# EAGLE library part MX1508 (library MX)
MX1508 Dual H-bridge motor driver
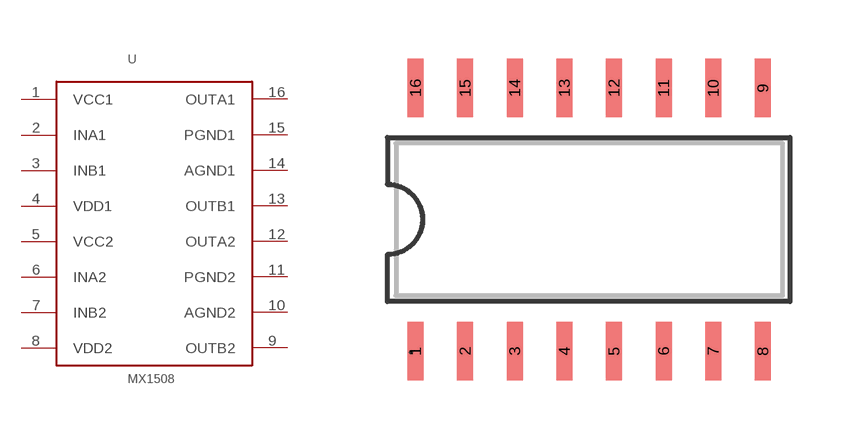
[diagram p0: symbol with the pads of MX1508; footprint MX1508]

Designator prefix U

## MX1508  [MX1508]
1  VCC1  pwr
2  INA1
3  INB1
4  VDD1  pwr
5  VCC2  pwr
6  INA2
7  INB2
8  VDD2  pwr
9  OUTB2
10  AGND2
11  PGND2
12  OUTA2
13  OUTB1
14  AGND1
15  PGND1
16  OUTA1

## Footprint MX1508 (pad centres in mm)
smd 0.41 x 1.5: 1 -5.08,-3.37; 2 -3.81,-3.37; 3 -2.54,-3.37; 4 -1.27,-3.37; 5 0,-3.37; 6 1.27,-3.37; 7 2.54,-3.37; 8 3.81,-3.37; 9 3.81,3.37; 10 2.54,3.37; 11 1.27,3.37; 12 0,3.37; 13 -1.27,3.37; 14 -2.54,3.37; 15 -3.81,3.37; 16 -5.08,3.37